# EAGLE library part CPCI-SHIELD_B22 (library con-cpci)
Compact PCI - Abschirmblech unten B 22 / Lower Shield Type B 22 Source: www.erni.com
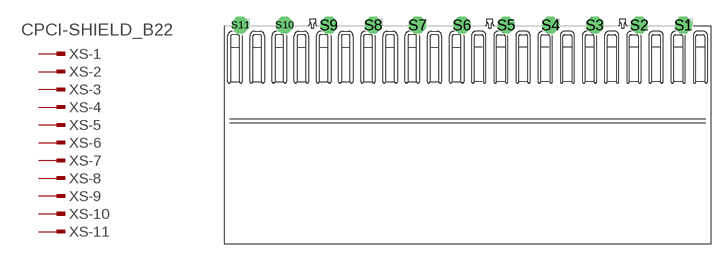
[diagram p2: symbol with the pads of 064783; footprint 064783]

Designator prefix XS; gates -1=PINV -2=PIN -3=PIN -4=PIN -5=PIN -6=PIN -7=PIN -8=PIN -9=PIN -10=PIN -11=PIN

## CPCI-SHIELD_B22  [064783]
S1  -1:1  in
S2  -2:1  in
S3  -3:1  in
S4  -4:1  in
S5  -5:1  in
S6  -6:1  in
S7  -7:1  in
S8  -8:1  in
S9  -9:1  in
S10  -10:1  in
S11  -11:1  in

## Footprint 064783 (pad centres in mm)
ERmet Abschirmblech unten B 22 / ERmet Lower Shield Type B 22 Source: http://www.erni.com/DB/PDF-Drawing/ERmet/064783.pdf
drill 1 octagon: S1 20,1; S2 16,1; S3 12,1; S4 8,1; S5 4,1; S6 0,1; S7 -4,1; S8 -8,1; S9 -12,1; S10 -16,1; S11 -20,1